# EAGLE library part STLINK_V3_HAT_SWD/JTAG_MINIMAL (library stlinkv3)
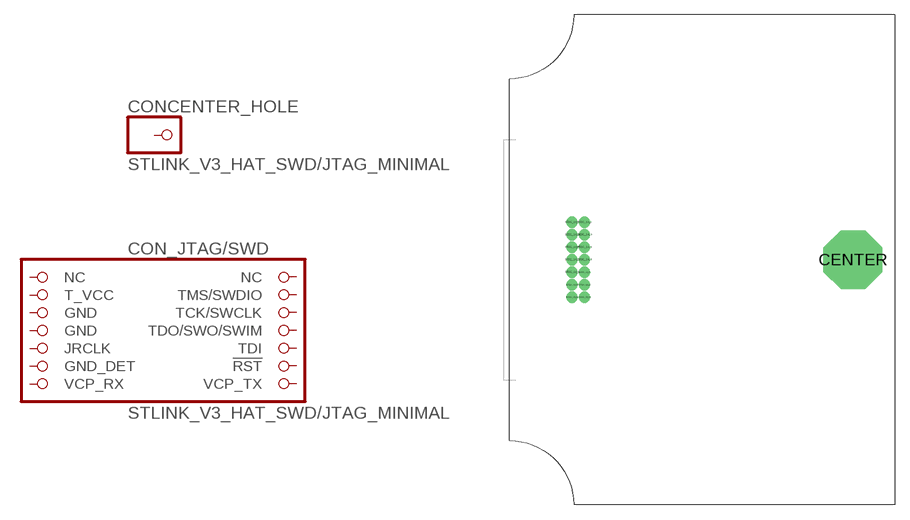
[diagram p1: symbol with the pads of STLINKV3_HAT_JTAG_MINIMAL; footprint STLINKV3_HAT_JTAG_MINIMAL]

Designator prefix CON; gates _JTAG/SWD=STDC_14(JTAG/SWD) CENTER_HOLE=PINHD1

## STLINK_V3_HAT_SWD/JTAG_MINIMAL  [STLINKV3_HAT_JTAG_MINIMAL]
CENTER  CENTER_HOLE:1  pas
STDC_14_1  _JTAG/SWD:NC  nc
STDC_14_2  _JTAG/SWD:NC  nc
STDC_14_3  _JTAG/SWD:T_VCC  in
STDC_14_4  _JTAG/SWD:TMS/SWDIO
STDC_14_5  _JTAG/SWD:GND  pas
STDC_14_6  _JTAG/SWD:TCK/SWCLK  out
STDC_14_7  _JTAG/SWD:GND  pas
STDC_14_8  _JTAG/SWD:TDO/SWO/SWIM
STDC_14_9  _JTAG/SWD:JRCLK  in
STDC_14_10  _JTAG/SWD:TDI  out
STDC_14_11  _JTAG/SWD:GND_DET  in
STDC_14_12  _JTAG/SWD:!RST  out
STDC_14_13  _JTAG/SWD:VCP_RX  in
STDC_14_14  _JTAG/SWD:VCP_TX  out

## Footprint STLINKV3_HAT_JTAG_MINIMAL (pad centres in mm)
Footprint for creating hat like board to the StLink V3 with through hole 1.27 female headers. TME order codes: 1pcs DS1065-03-2X7S8BV (2x7)
drill 3 pad 6 octagon: CENTER 0,0
drill 0.65: STDC_14_1 -28.585,3.81; STDC_14_2 -27.315,3.81; STDC_14_3 -28.585,2.54; STDC_14_4 -27.315,2.54; STDC_14_5 -28.585,1.27; STDC_14_6 -27.315,1.27; STDC_14_7 -28.585,0; STDC_14_8 -27.315,0; STDC_14_9 -28.585,-1.27; STDC_14_10 -27.315,-1.27; STDC_14_11 -28.585,-2.54; STDC_14_12 -27.315,-2.54; STDC_14_13 -28.585,-3.81; STDC_14_14 -27.315,-3.81